# Altium footprint library sm_resistor.PcbLib: 28 footprints (part 2 of 2)
Each footprint in its own frame and in the unit in brackets; x right, y up, seen from the top. Pads: shape width x height; smd on the part's side, far side on the other; paste and mask are expansions set on the pad; w line width, h text height; cw(c..) or ccw(c..) is an arc to the next point about the centre after c.
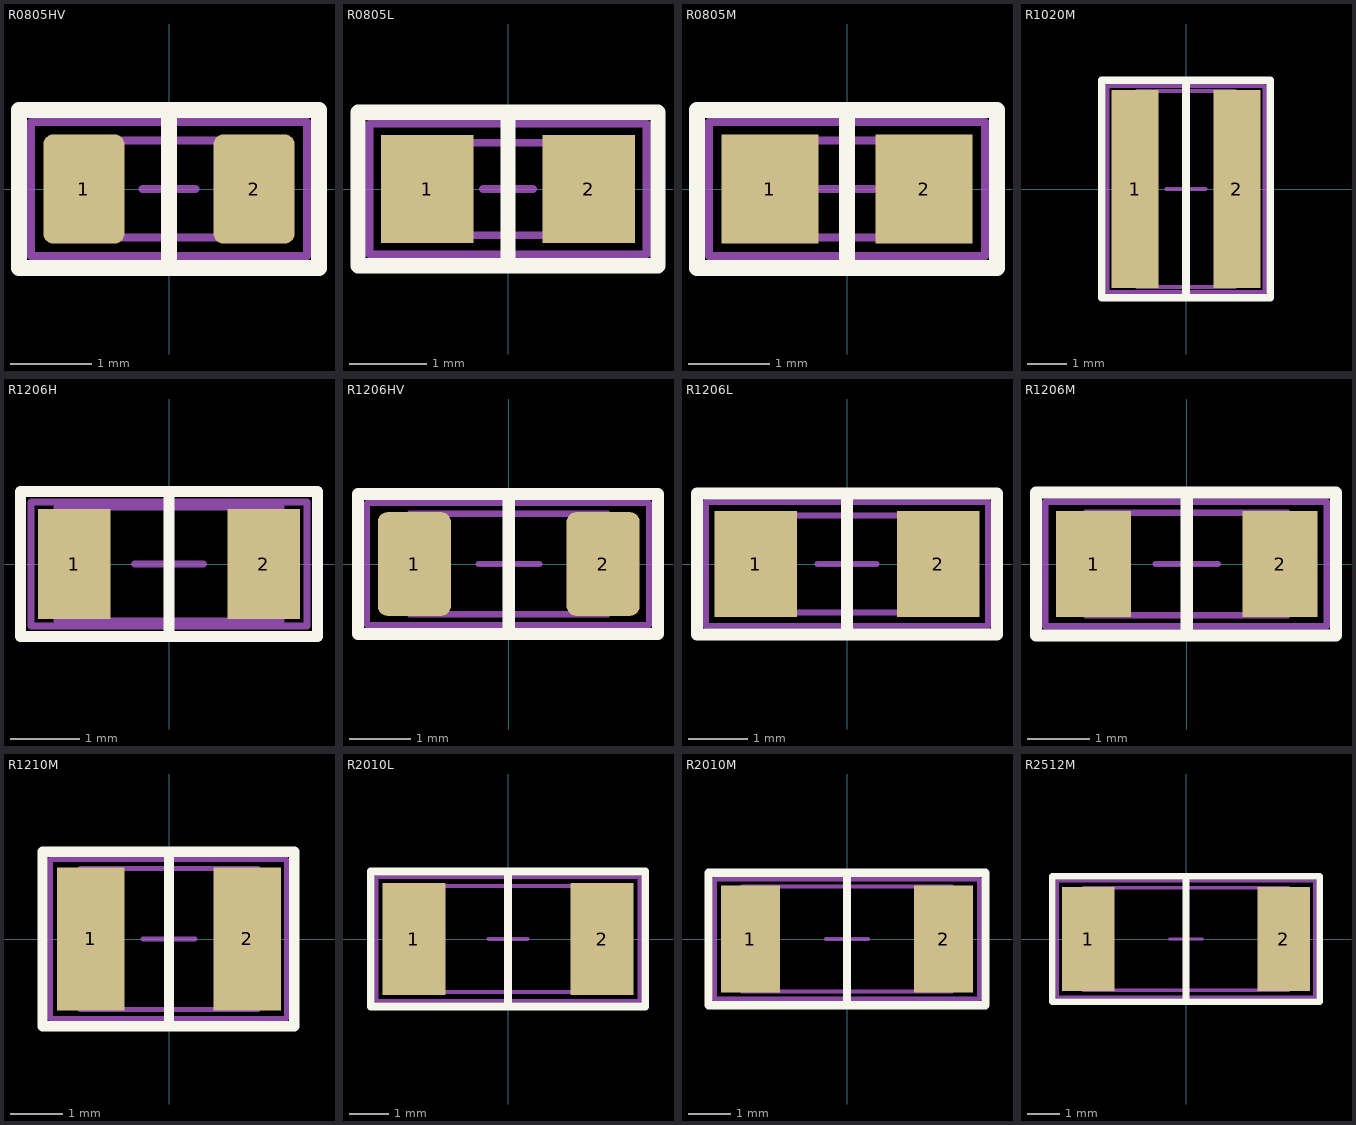
[diagram p1: the footprints below, top view; thin cyan lines are the x and y axes]

## R0805HV [mm] "Chip Resistor, 2-Leads, Body 2.0x1.3mm, IPC Medium Density"
height 0.7
pads (2):
  rrect25% 1x1.35 smd: 1(-1.05,0) 2(1.05,0)
Top Overlay:
  lines w0.2: 0,-0.975 0,0.975 ; -1.85,-0.975 1.85,-0.975 1.85,0.975 -1.85,0.975 -1.85,-0.975
Mechanical 13:
  lines w0.1: -0.325,0 0.325,0 ; 0,-0.325 0,0.325 ; -1,-0.6 -1,0.6 1,0.6 1,-0.6 -1,-0.6
Mechanical 15:
  lines w0.1: -1.7,-0.825 1.7,-0.825 1.7,0.825 -1.7,0.825 -1.7,-0.825
  text ".Designator" at -1.1,-0.225 h0.5
3D body: height 0.6, standoff 0, extent 0.6,-0.6 1,0.6
3D body: height 0.6, standoff 0, extent -1,-0.6 -0.6,0.6
3D body: height 0.6, standoff 0, extent -0.6,-0.6 0.6,0.6

## R0805L [mm] "Chip Resistor, 2-Leads, Body 2.0x1.3mm, IPC Low Density"
height 0.6
pads (2):
  rect 1.2x1.4 smd: 1(-1.05,0) 2(1.05,0)
Top Overlay:
  lines w0.2: 0,-1 0,0.975 ; -1.95,-1 1.95,-1 1.95,1 -1.95,1 -1.95,-1
Mechanical 13:
  lines w0.1: -0.325,0 0.325,0 ; 0,-0.325 0,0.325 ; -1,-0.6 -1,0.6 1,0.6 1,-0.6 -1,-0.6
Mechanical 15:
  lines w0.1: -1.8,-0.85 -1.8,0.85 1.8,0.85 1.8,-0.85 -1.8,-0.85
  text ".Designator" at -1.1,-0.225 h0.5
3D body: height 0.6, standoff 0, extent 0.6,-0.6 1,0.6
3D body: height 0.6, standoff 0, extent -1,-0.6 -0.6,0.6
3D body: height 0.6, standoff 0, extent -0.6,-0.6 0.6,0.6

## R0805M [mm] "Chip Resistor, 2-Leads, Body 2.0x1.3mm, IPC Medium Density"
height 0.7
pads (2):
  rect 1.2x1.35 smd: 1(-0.95,0) 2(0.95,0)
Top Overlay:
  lines w0.2: 0,-0.975 0,0.975 ; -1.85,-0.975 1.85,-0.975 1.85,0.975 -1.85,0.975 -1.85,-0.975
Mechanical 13:
  lines w0.1: -0.325,0 0.325,0 ; 0,-0.325 0,0.325 ; -1,-0.6 -1,0.6 1,0.6 1,-0.6 -1,-0.6
Mechanical 15:
  lines w0.1: -1.7,-0.825 1.7,-0.825 1.7,0.825 -1.7,0.825 -1.7,-0.825
  text ".Designator" at -1.1,-0.225 h0.5
3D body: height 0.6, standoff 0, extent 0.6,-0.6 1,0.6
3D body: height 0.6, standoff 0, extent -1,-0.6 -0.6,0.6
3D body: height 0.6, standoff 0, extent -0.6,-0.6 0.6,0.6

## R1020M [mm] "Chip Resistor, 2-Leads, Body 2.5x5.0mm, IPC Medium Density"
height 0.7
pads (2):
  rect 1.2x5.05 smd: 1(-1.3,0) 2(1.3,0)
Top Overlay:
  lines w0.2: 0,-2.775 0,2.775 ; -2.15,-2.775 -2.15,2.775 2.15,2.775 2.15,-2.775 -2.15,-2.775
Mechanical 13:
  lines w0.1: -0.5,0 0.5,0 ; 0,-0.5 0,0.5 ; -1.25,-2.5 1.25,-2.5 1.25,2.5 -1.25,2.5 -1.25,-2.5
Mechanical 15:
  lines w0.1: -2,-2.625 -2,2.625 2,2.625 2,-2.625 -2,-2.625
  text ".Designator" at -1.1,-0.225 h0.5
3D body: height 0.6, standoff 0, extent -0.7,-2.5 0.7,2.5
3D body: height 0.6, standoff 0, extent -1.25,-2.5 -0.7,2.5
3D body: height 0.6, standoff 0, extent 0.7,-2.5 1.25,2.5

## R1206H [mm] "Chip Resistor, 2-Leads, Body 3.2x1.6mm, IPC High Density"
height 0.7
pads (2):
  rect 1.05x1.6 smd: 1(-1.375,0) 2(1.375,0)
Top Overlay:
  lines w0.16: 0,-1.05 0,1.05 ; -2.15,-1.05 2.15,-1.05 2.15,1.05 -2.15,1.05 -2.15,-1.05
Mechanical 13:
  lines w0.1: -0.5,0 0.5,0 ; 0,-0.5 0,0.5 ; -1.625,-0.825 -1.625,0.825 1.625,0.825 1.625,-0.825 -1.625,-0.825
Mechanical 15:
  lines w0.1: -2,-0.9 2,-0.9 2,0.9 -2,0.9 -2,-0.9
  text ".Designator" at -1.1,-0.225 h0.5
3D body: height 0.6, standoff 0, extent 1.1,-0.8 1.6,0.8
3D body: height 0.6, standoff 0, extent -1.6,-0.8 -1.1,0.8
3D body: height 0.6, standoff 0, extent -1.1,-0.8 1.1,0.8

## R1206HV [mm] "Chip Resistor, 2-Leads, Body 3.2x1.6mm, IPC High Voltage"
height 0.7
pads (2):
  rrect25% 1.2x1.7 smd: 1(-1.55,0) 2(1.55,0)
Top Overlay:
  lines w0.2: 0,-1.15 0,1.15 ; -2.475,-1.15 2.45,-1.15 2.45,1.15 -2.475,1.15 -2.475,-1.15
Mechanical 13:
  lines w0.1: -0.5,0 0.5,0 ; 0,-0.5 0,0.5 ; -1.625,-0.825 -1.625,0.825 1.625,0.825 1.625,-0.825 -1.625,-0.825
Mechanical 15:
  lines w0.1: -2.325,-1 2.3,-1 2.3,1 -2.325,1 -2.325,-1
  text ".Designator" at -1.1,-0.225 h0.5
3D body: height 0.6, standoff 0, extent 1.1,-0.8 1.6,0.8
3D body: height 0.6, standoff 0, extent -1.6,-0.8 -1.1,0.8
3D body: height 0.6, standoff 0, extent -1.1,-0.8 1.1,0.8

## R1206L [mm] "Chip Resistor, 2-Leads, Body 3.2x1.6mm, IPC Low Density"
height 0.7
pads (2):
  rect 1.4x1.8 smd: 1(-1.55,0) 2(1.55,0)
Top Overlay:
  lines w0.2: 0,-1.2 0,1.2 ; -2.55,-1.2 -2.55,1.2 2.55,1.2 2.55,-1.2 -2.55,-1.2
Mechanical 13:
  lines w0.1: -0.5,0 0.5,0 ; 0,-0.5 0,0.5 ; -1.625,-0.825 1.625,-0.825 1.625,0.825 -1.625,0.825 -1.625,-0.825
Mechanical 15:
  lines w0.1: -2.4,-1.05 -2.4,1.05 2.4,1.05 2.4,-1.05 -2.4,-1.05
  text ".Designator" at -1.1,-0.225 h0.5
3D body: height 0.6, standoff 0, extent -1.1,-0.8 1.1,0.8
3D body: height 0.6, standoff 0, extent -1.6,-0.8 -1.1,0.8
3D body: height 0.6, standoff 0, extent 1.1,-0.8 1.6,0.8

## R1206M [mm] "Chip Resistor, 2-Leads, Body 3.2x1.6mm, IPC Medium Density"
height 0.7
pads (2):
  rect 1.2x1.7 smd: 1(-1.5,0) 2(1.5,0)
Top Overlay:
  lines w0.2: 0,-1.15 0,1.15 ; -2.425,-1.15 -2.425,1.15 2.4,1.15 2.4,-1.15 -2.425,-1.15
Mechanical 13:
  lines w0.1: -0.5,0 0.5,0 ; 0,-0.5 0,0.5 ; -1.625,-0.825 1.625,-0.825 1.625,0.825 -1.625,0.825 -1.625,-0.825
Mechanical 15:
  lines w0.1: -2.275,-1 -2.275,1 2.25,1 2.25,-1 -2.275,-1
  text ".Designator" at -1.1,-0.225 h0.5
3D body: height 0.6, standoff 0, extent -1.1,-0.8 1.1,0.8
3D body: height 0.6, standoff 0, extent -1.6,-0.8 -1.1,0.8
3D body: height 0.6, standoff 0, extent 1.1,-0.8 1.6,0.8

## R1210M [mm] "Chip Resistor, 2-Leads, Body 3.2x1.6mm, IPC Medium Density"
height 0.7
pads (2):
  rect 1.3x2.75 smd: 1(-1.5,0) 2(1.5,0)
Top Overlay:
  lines w0.2: 0,-1.675 0,1.675 ; -2.425,-1.675 2.4,-1.675 2.4,1.675 -2.425,1.675 -2.425,-1.675
Mechanical 13:
  lines w0.1: -0.5,0 0.5,0 ; 0,-0.5 0,0.5 ; -1.7,-1.35 1.7,-1.35 1.7,1.35 -1.7,1.35 -1.7,-1.35
Mechanical 15:
  lines w0.1: -2.275,-1.525 2.25,-1.525 2.25,1.525 -2.275,1.525 -2.275,-1.525
  text ".Designator" at -1.1,-0.225 h0.5
3D body: height 0.6, standoff 0, extent 1.1,-1.3 1.6,1.3
3D body: height 0.6, standoff 0, extent -1.6,-1.3 -1.1,1.3
3D body: height 0.6, standoff 0, extent -1.1,-1.3 1.1,1.3

## R2010L [mm] "Chip Resistor, 2-Leads, Body 5.0x2.5mm, IPC Low Density"
height 0.7
pads (2):
  rect 1.6x2.85 smd: 1(-2.4,0) 2(2.4,0)
Top Overlay:
  lines w0.2: 0,-1.725 0,1.725 ; -3.5,-1.725 3.5,-1.725 3.5,1.725 -3.5,1.725 -3.5,-1.725
Mechanical 13:
  lines w0.1: -0.5,0 0.5,0 ; 0,-0.5 0,0.5 ; -2.6,-1.35 2.6,-1.35 2.6,1.35 -2.6,1.35 -2.6,-1.35
Mechanical 15:
  lines w0.1: -3.35,-1.575 3.35,-1.575 3.35,1.575 -3.35,1.575 -3.35,-1.575
  text ".Designator" at -1.1,-0.225 h0.5
3D body: height 0.6, standoff 0, extent 1.9,-1.25 2.5,1.25
3D body: height 0.6, standoff 0, extent -2.5,-1.25 -1.9,1.25
3D body: height 0.6, standoff 0, extent -1.9,-1.25 1.9,1.25

## R2010M [mm] "Chip Resistor, 2-Leads, Body 5.0x2.5mm, IPC Medium Density"
height 0.7
pads (2):
  rect 1.4x2.55 smd: 1(-2.3,0) 2(2.3,0)
Top Overlay:
  lines w0.2: 0,-1.575 0,1.575 ; -3.3,-1.575 3.3,-1.575 3.3,1.575 -3.3,1.575 -3.3,-1.575
Mechanical 13:
  lines w0.1: -0.5,0 0.5,0 ; 0,-0.5 0,0.5 ; -2.5,-1.25 2.5,-1.25 2.5,1.25 -2.5,1.25 -2.5,-1.25
Mechanical 15:
  lines w0.1: -3.15,-1.425 3.15,-1.425 3.15,1.425 -3.15,1.425 -3.15,-1.425
  text ".Designator" at -1.1,-0.225 h0.5
3D body: height 0.6, standoff 0, extent 1.9,-1.25 2.5,1.25
3D body: height 0.6, standoff 0, extent -2.5,-1.25 -1.9,1.25
3D body: height 0.6, standoff 0, extent -1.9,-1.25 1.9,1.25

## R2512M [mm] "Chip Resistor, 2-Leads, Body 5.0x2.5mm, IPC Medium Density"
height 0.7
pads (2):
  rect 1.6x3.2 smd: 1(-3,0) 2(3,0)
Top Overlay:
  lines w0.2: 0,-1.925 0,1.925 ; -4.1,-1.925 -4.1,1.925 4.1,1.925 4.1,-1.925 -4.1,-1.925
Mechanical 13:
  lines w0.1: -0.5,0 0.5,0 ; 0,-0.5 0,0.5 ; -3.15,-1.575 -3.15,1.575 3.15,1.575 3.15,-1.575 -3.15,-1.575
Mechanical 15:
  lines w0.1: -3.95,-1.775 -3.95,1.775 3.95,1.775 3.95,-1.775 -3.95,-1.775
  text ".Designator" at -1.1,-0.225 h0.5
3D body: height 0.6, standoff 0, extent -2.55,-1.575 2.55,1.575
3D body: height 0.6, standoff 0, extent -3.15,-1.575 -2.55,1.575
3D body: height 0.6, standoff 0, extent 2.55,-1.575 3.15,1.575